# EAGLE library part MOLEX55560-0207 (library KW2)
Flat programming connector
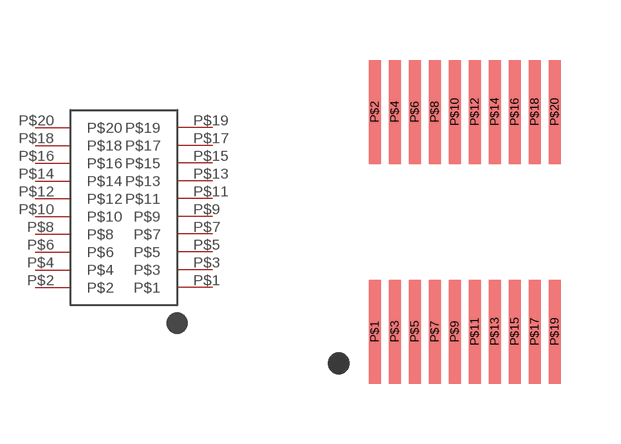
[diagram p6: symbol with the pads of MOLEX55560-0207; footprint MOLEX55560-0207]

Designator prefix -

## MOLEX55560-0207  [MOLEX55560-0207]
P$1  P$1
P$2  P$2
P$3  P$3
P$4  P$4
P$5  P$5
P$6  P$6
P$7  P$7
P$8  P$8
P$9  P$9
P$10  P$10
P$11  P$11
P$12  P$12
P$13  P$13
P$14  P$14
P$15  P$15
P$16  P$16
P$17  P$17
P$18  P$18
P$19  P$19
P$20  P$20

## Footprint MOLEX55560-0207 (pad centres in mm)
smd 0.3 x 2.6: P$1 -2.25,-2.75; P$2 -2.25,2.75; P$3 -1.75,-2.75; P$4 -1.75,2.75; P$5 -1.25,-2.75; P$6 -1.25,2.75; P$7 -0.75,-2.75; P$8 -0.75,2.75; P$9 -0.25,-2.75; P$10 -0.25,2.75; P$11 0.25,-2.75; P$12 0.25,2.75; P$13 0.75,-2.75; P$14 0.75,2.75; P$15 1.25,-2.75; P$16 1.25,2.75; P$17 1.75,-2.75; P$18 1.75,2.75; P$19 2.25,-2.75; P$20 2.25,2.75